# Altium schematic symbol library resistor.SchLib: 32 symbols
Pins are listed as number, name and electrical type; pins without a type are passive.

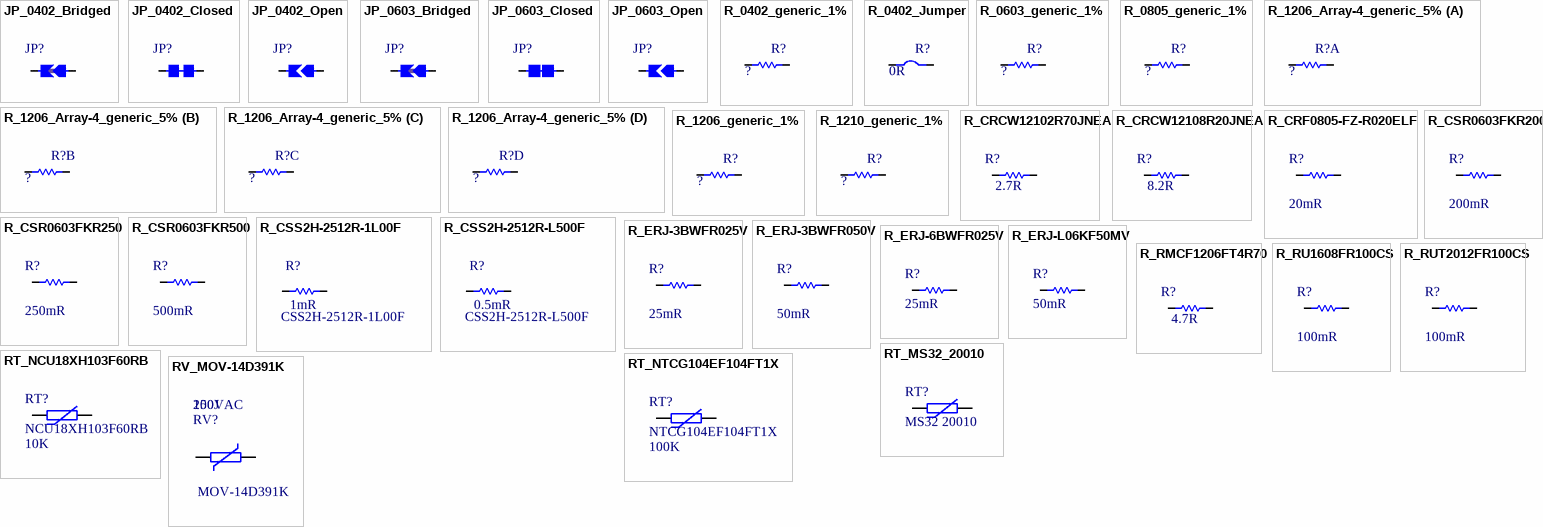
[diagram p0: symbols JP_0402_Bridged to RV_MOV-14D391K]

## JP_0402_Bridged
designator JP?, comment 0402 Solder Bridge, Bridged with Solder  (value not drawn)  (no BOM)
footprint 0402_Jumper_BRIDGED (0402 Resistor footprint, Bridged with solder blob)
pins: 1, 2

## JP_0402_Closed
designator JP?, comment 0402 resistor with shorted pads  (value not drawn)  (net tie, no BOM)
footprint 0402_Jumper_Closed (0402 Resistor, shorted through with wire)
pins: 1, 2

## JP_0402_Open
designator JP?, comment 0402 resistor with open pads  (value not drawn)  (no BOM)
footprint 0402_Jumper_Open (0402 Resistor footprint, open)
pins: 1, 2

## JP_0603_Bridged
designator JP?, comment Solder Bridge, Bridged with Solder  (value not drawn)
footprint 0603_Jumper_BRIDGED (Footprint not found)
pins: 1, 2

## JP_0603_Closed
designator JP?, comment 0603 resistor with shorted pads  (value not drawn)  (net tie, no BOM)
footprint 0603_Jumper_CLOSED (0603 Resistor, shorted through with wire)
pins: 1, 2

## JP_0603_Open
designator JP?, comment Solder Bridge, Open  (value not drawn)
footprint 0603_Jumper_OPEN (0603 Resistor, Easy to bridge with solder)
pins: 1, 2

## R_0402_generic_1%
designator R?, comment R_0402_?_1%  (value not drawn)
Generic 0402 Resistor (10.2R to 10M); Manufacturer: Yageo; Power Rating: 0.0625W; Temperature Coefficient: ±100ppm/°C; Tolerance: ±1%; Voltage Rating: 50V; Operating Temperature: -55°C ~ 155°C; Manufacturer Part Number: ='RC0402FR-07'+ValueFormatted+'L'; HelpURL: https://www.digikey.com/products/en/resistors/chip-resistor-surface-mount/52?pv17=103&FV=fffc000d%2Cc0001%2C1c0002%2C1f140000%2Cffe00034&k=RC0402; ValueFormatted: =Copy(Copy(Value, 0, Pos('.', Value)-1)+Copy(Value, Length(Value), 1)+Copy(Value, Pos('.', Value)+1, Length(Value)-Pos('.', Value)-1),1,Pos('.',Value)*Length(Value))+Copy(Value,1,Length(Value)*(1-Pos('.',Value))); Value: ?
simulation model Resistor (Resistor Model)
footprint 0402_Resistor (0402 RESISTOR)
pins: 1, 2

## R_0402_Jumper
designator R?, comment value 0R  (hidden comment: 0402 Jumper)
0402 Jumper (0 ohms); Manufacturer: Yageo; Manufacturer Part Number: RC0402JR-070RL; Power Rating: 0.0625W; Operating Temperature: -55°C ~ 155°C; Supplier 1: Digi-Key; Supplier 2: Mouser; Supplier Part Number 1: 311-0.0JRCT-ND; Supplier Part Number 2: 603-RC0402JR-070RL
simulation model Resistor (Resistor Model)
footprint 0402_Resistor (0402 RESISTOR)
pins: 1, 2

## R_0603_generic_1%
designator R?, comment R_0603_?_1%  (value not drawn)
Generic 0603 Resistor (10.2R to 10M); Manufacturer: Yageo; Power Rating: 0.1W; Temperature Coefficient: ±100ppm/°C; Tolerance: ±1%; Voltage Rating: 75V; Operating Temperature: -55°C ~ 155°C; Manufacturer Part Number: ='RC0603FR-07'+ValueFormatted+'L'; HelpURL: https://www.digikey.com/products/en/resistors/chip-resistor-surface-mount/52?pv17=103&FV=fffc000d%2Cc0001%2C1c0002%2C1f140000%2Cffe00034&k=RC0603; ValueFormatted: =Copy(Copy(Value, 0, Pos('.', Value)-1)+Copy(Value, Length(Value), 1)+Copy(Value, Pos('.', Value)+1, Length(Value)-Pos('.', Value)-1),1,Pos('.',Value)*Length(Value))+Copy(Value,1,Length(Value)*(1-Pos('.',Value))); Value: ?
simulation model Resistor (Resistor Model)
footprint 0603_Resistor (0603 RESISTOR)
pins: 1, 2

## R_0805_generic_1%
designator R?, comment R_0805_?_1%  (value not drawn)
Generic 0805 resistor (10.2R to 10M); Manufacturer: Yageo; Power Rating: 0.125W; Temperature Coefficient: ±100ppm/°C; Tolerance: ±1%; Voltage Rating: 150V; Operating Temperature: -55°C ~ 155°C; Manufacturer Part Number: ='RC0805FR-07'+ValueFormatted+'L'; HelpURL: https://www.digikey.com/products/en/resistors/chip-resistor-surface-mount/52?pv17=103&FV=fffc000d%2Cc0001%2C1c0002%2C1f140000%2Cffe00034&k=RC0805; ValueFormatted: =Copy(Copy(Value, 0, Pos('.', Value)-1)+Copy(Value, Length(Value), 1)+Copy(Value, Pos('.', Value)+1, Length(Value)-Pos('.', Value)-1),1,Pos('.',Value)*Length(Value))+Copy(Value,1,Length(Value)*(1-Pos('.',Value))); Value: ?
simulation model Resistor (Resistor Model)
footprint 0805_Resistor (0805 Resistor)
pins: 1, 2

## R_1206_Array-4_generic_5%
designator R?, comment R_1206_Array-4?_5%  (value not drawn)
Generic Isolated Array of 4 resistors, 1206 package (0R to 1M); Manufacturer: Yageo; Power Rating: 0.0625W; Temperature Coefficient: ±250ppm/°C; Tolerance: ±5%; Voltage Rating: 50V; Operating Temperature: -55°C ~ 155°C; Manufacturer Part Number: ='YC164-JR-07'+ValueFormatted+'L'; HelpURL: https://www.digikey.com/products/en/resistors/resistor-networks-arrays/50?FV=ffe00032%2C1c0002&quantity=0&ColumnSort=1&page=1&k=YC164-JR-07&pageSize=100&pkeyword=YC164-JR-07; ValueFormatted: =Copy(Copy(Value, 0, Pos('.', Value)-1)+Copy(Value, Length(Value), 1)+Copy(Value, Pos('.', Value)+1, Length(Value)-Pos('.', Value)-1),1,Pos('.',Value)*Length(Value))+Copy(Value,1,Length(Value)*(1-Pos('.',Value))); Value: ?
footprint 1206_Resistor_Array-4 (1206 Resistor Array (4 resistors))
part A pins: 1, 5
part B pins: 2, 6
part C pins: 3, 7
part D pins: 4, 8

## R_1206_generic_1%
designator R?, comment R_1206_?_1%  (value not drawn)
Generic 1206 resistor (10.2R to 10M); Manufacturer: Yageo; Power Rating: 0.25W; Temperature Coefficient: ±100ppm/°C; Tolerance: ±1%; Voltage Rating: 200V; Operating Temperature: -55°C ~ 155°C; Manufacturer Part Number: ='RC1206FR-07'+ValueFormatted+'L'; HelpURL: https://www.digikey.com/products/en/resistors/chip-resistor-surface-mount/52?pv17=103&FV=fffc000d%2Cc0001%2C1c0002%2C1f140000%2Cffe00034&k=RC1206; ValueFormatted: =Copy(Copy(Value, 0, Pos('.', Value)-1)+Copy(Value, Length(Value), 1)+Copy(Value, Pos('.', Value)+1, Length(Value)-Pos('.', Value)-1),1,Pos('.',Value)*Length(Value))+Copy(Value,1,Length(Value)*(1-Pos('.',Value))); Value: ?
simulation model Resistor (Resistor Model)
footprint 1206_Resistor (1206 Resistor)
pins: 1, 2

## R_1210_generic_1%
designator R?, comment R_1210_?_1%  (value not drawn)
Generic 1210 resistor (10.2R to 1M); Manufacturer: Yageo; Power Rating: 0.5W; Temperature Coefficient: ±100ppm/°C; Tolerance: ±1%; Voltage Rating: 200V; Operating Temperature: -55°C ~ 155°C; Manufacturer Part Number: ='AC1210FR-07'+ValueFormatted+'L'; HelpURL: https://www.digikey.com/products/en/resistors/chip-resistor-surface-mount/52?k=AC1210FR&k=&pkeyword=AC1210FR&pv17=103&FV=ffe00034; ValueFormatted: =Copy(Copy(Value, 0, Pos('.', Value)-1)+Copy(Value, Length(Value), 1)+Copy(Value, Pos('.', Value)+1, Length(Value)-Pos('.', Value)-1),1,Pos('.',Value)*Length(Value))+Copy(Value,1,Length(Value)*(1-Pos('.',Value))); Value: ?
simulation model Resistor (Resistor Model)
footprint 1210_Resistor (1210 Resistor)
pins: 1, 2

## R_CRCW12102R70JNEA
designator R?, comment value 2.7R  (hidden comment: CRCW12102R70JNEA)
2.7 Ohms ±5% 0.5W, 1/2W Chip Resistor 1210 (3225 Metric) Automotive AEC-Q200 Thick Film; Manufacturer: Vishay Dale; Voltage Rating: 200V; Temperature Coefficient: 200ppm/°C; Tolerance: 5%; Composition: Thick Film; Manufacturer Part Number: CRCW12102R70JNEA; Power Rating: 0.5W; Contact Plating: Tin; Features: Automotive AEC-Q200; Height: 0.024inch; Max Operating Temperature: 155°C; Min Operating Temperature: -55°C; Case/Package: 1210; Supplier 1: Digi-Key; Supplier Part Number 1: 541-2.7VDKR-ND
footprint 1210_Resistor (1210 Resistor)
pins: 1, 2

## R_CRCW12108R20JNEA
designator R?, comment value 8.2R  (hidden comment: CRCW12108R20JNEA)
8.2 Ohms ±5% 0.5W, 1/2W Chip Resistor 1210 (3225 Metric) Automotive AEC-Q200 Thick Film; Manufacturer: Vishay Dale; Voltage Rating: 200V; Temperature Coefficient: 200ppm/°C; Supplier 1: Digi-Key; Supplier Part Number 1: 541-8.2VDKR-ND; Tolerance: 5%; Composition: Thick Film; Manufacturer Part Number: CRCW12108R20JNEA; Power Rating: 0.5W; Contact Plating: Tin; Features: Automotive AEC-Q200; Height: 0.024inch; Max Operating Temperature: 155°C; Min Operating Temperature: -55°C; Case/Package: 1210
footprint 1210_Resistor (1210 Resistor)
pins: 1, 2

## R_CRF0805-FZ-R020ELF
designator R?, comment value 20mR  (hidden comment: CRF0805-FZ-R020ELF)
20 mOhms ±1% 0.5W, 1/2W Chip Resistor 0805 (2012 Metric) Automotive AEC-Q200, Current Sense, Moisture Resistant Metal Element; Manufacturer: Bourns; Temperature Coefficient: 50ppm/°C; Min Operating Temperature: -55°C; Max Power Dissipation: 0.5W; Manufacturer Part Number: CRF0805-FZ-R020ELF; Max Operating Temperature: 170°C; Composition: Metal Element; Tolerance: 1%; Supplier 1: Digi-Key; Supplier Part Number 1: CRF0805-FZ-R020ELFDKR-ND
footprint 0805_Resistor (0805 Resistor)
pins: 1, 2

## R_CSR0603FKR200
designator R?, comment value 200mR  (hidden comment: CSR0603FKR200)
200 mOhms ±1% 0.125W, 1/8W Chip Resistor 0603 (1608 Metric) Current Sense Thick Film; Manufacturer: Stackpole Electronics; Temperature Coefficient: 300ppm/°C; Min Operating Temperature: -55°C; Max Power Dissipation: 0.125W; Manufacturer Part Number: CSR0603FKR200; Max Operating Temperature: 155°C; Composition: Thick Film; Tolerance: 1%; Supplier 1: Digi-Key; Supplier Part Number 1: CSR0603FKR200CT-ND
footprint 0603_Resistor (0603 RESISTOR)
pins: 1, 2

## R_CSR0603FKR250
designator R?, comment value 250mR  (hidden comment: CSR0603FKR250)
250 mOhms ±1% 0.125W, 1/8W Chip Resistor 0603 (1608 Metric) Current Sense Thick Film; Manufacturer: Stackpole Electronics; Temperature Coefficient: 300ppm/°C; Min Operating Temperature: -55°C; Max Power Dissipation: 0.125W; Manufacturer Part Number: CSR0603FKR250; Max Operating Temperature: 155°C; Composition: Thick Film; Tolerance: 1%; Supplier 1: Digi-Key; Supplier Part Number 1: CSR0603FKR250CT-ND
footprint 0603_Resistor (0603 RESISTOR)
pins: 1, 2

## R_CSR0603FKR500
designator R?, comment value 500mR  (hidden comment: CSR0603FKR500)
500 mOhms ±1% 0.125W, 1/8W Chip Resistor 0603 (1608 Metric) Current Sense Thick Film; Manufacturer: Stackpole Electronics; Temperature Coefficient: 300ppm/°C; Min Operating Temperature: -55°C; Max Power Dissipation: 0.125W; Manufacturer Part Number: CSR0603FKR500; Max Operating Temperature: 155°C; Composition: Thick Film; Tolerance: 1%; Supplier 1: Digi-Key; Supplier Part Number 1: CSR0603FKR500CT-ND
footprint 0603_Resistor (0603 RESISTOR)
pins: 1, 2

## R_CSS2H-2512R-1L00F
designator R?, comment CSS2H-2512R-1L00F  value 1mR
1 mOhms ±1% 5W Chip Resistor 2512 (6432 Metric) Current Sense, Moisture Resistant Metal Element; Manufacturer: Bourns; Temperature Coefficient: 50ppm/°C; Min Operating Temperature: -55°C; Max Power Dissipation: 5W; Case/Package: 2512; Tolerance: 1%; Power Rating: 5W; Length: 0.25inch; Max Operating Temperature: 170°C; Manufacturer Part Number: CSS2H-2512R-1L00F; Height: 0.037inch; Resistance: 1mR; Supplier 1: Digi-Key; Supplier Part Number 1: CSS2H-2512R-1L00FCT-ND
footprint 2512_Resistor (2512 Resistor)
pins: 1, 2

## R_CSS2H-2512R-L500F
designator R?, comment CSS2H-2512R-L500F  value 0.5mR
500 µOhms ±1% 6W Chip Resistor 2512 (6432 Metric) Current Sense, Moisture Resistant Metal Element; Manufacturer: Bourns; Temperature Coefficient: 50ppm/°C; Supplier 1: Digi-Key; Supplier Part Number 1: CSS2H-2512R-L500FCT-ND; Min Operating Temperature: -55°C; Max Power Dissipation: 6W; Case/Package: 2512; Tolerance: 1%; Power Rating: 6W; Length: 0.25inch; Max Operating Temperature: 170°C; Manufacturer Part Number: CSS2H-2512R-L500F; Height: 0.037inch; Resistance: 0.5mR
footprint 2512_Resistor (2512 Resistor)
pins: 1, 2

## R_ERJ-3BWFR025V
designator R?, comment value 25mR  (hidden comment: ERJ-3BWFR025V)
25 mOhms ±1% 0.333W, 1/3W Chip Resistor 0603 (1608 Metric) Current Sense Thick Film; Manufacturer: Panasonic; Manufacturer Part Number: ERJ-3BWFR050V; Temperature Coefficient: 250ppm/°C; Min Operating Temperature: -55°C; Max Power Dissipation: 0.333W; Max Operating Temperature: 155°C; Composition: Thick Film; Tolerance: 1%; Supplier 1: Digi-Key; Supplier Part Number 1: P17464CT-ND
footprint 0603_Resistor (0603 RESISTOR)
pins: 1, 2

## R_ERJ-3BWFR050V
designator R?, comment value 50mR  (hidden comment: ERJ-3BWFR050V)
50 mOhms ±1% 0.333W, 1/3W Chip Resistor 0603 (1608 Metric) Current Sense Thick Film; Manufacturer: Panasonic; Temperature Coefficient: 150ppm/°C; Min Operating Temperature: -55°C; Max Power Dissipation: 0.333W; Manufacturer Part Number: ERJ-3BWFR050V; Max Operating Temperature: 155°C; Composition: Thick Film; Tolerance: 1%; Supplier 1: Digi-Key; Supplier Part Number 1: P17472CT-ND
footprint 0603_Resistor (0603 RESISTOR)
pins: 1, 2

## R_ERJ-6BWFR025V
designator R?, comment value 25mR  (hidden comment: ERJ-6BWFR025V)
25 mOhms ±1% 0.5W, 1/2W Chip Resistor 0805 (2012 Metric) Automotive AEC-Q200, Current Sense Thick Film; Manufacturer: Panasonic; Temperature Coefficient: 200ppm/°C; Min Operating Temperature: -55°C; Max Power Dissipation: 0.5W; Manufacturer Part Number: ERJ-6BWFR025V; Max Operating Temperature: 155°C; Composition: Thick Film; Tolerance: 1%; Supplier 1: Digi-Key; Supplier Part Number 1: P17580CT-ND
footprint 0805_Resistor (0805 Resistor)
pins: 1, 2

## R_ERJ-L06KF50MV
designator R?, comment value 50mR  (hidden comment: ERJ-L06KF50MV)
50 mOhms ±1% 0.25W, 1/4W Chip Resistor 0805 (2012 Metric) Automotive AEC-Q200, Current Sense Thick Film; Manufacturer: Panasonic; Temperature Coefficient: 100ppm/°C; Min Operating Temperature: -55°C; Max Power Dissipation: 0.25W; Manufacturer Part Number: ERJ-L06KF50MV; Max Operating Temperature: 125°C; Composition: Thick Film; Tolerance: 1%; Supplier 1: Digi-Key; Supplier Part Number 1: P50LLCT-ND
footprint 0805_Resistor (0805 Resistor)
pins: 1, 2

## R_RMCF1206FT4R70
designator R?, comment value 4.7R  (hidden comment: RMCF1206FT4R70)
4.7 Ohms ±1% 0.25W, 1/4W Chip Resistor 1206 (3216 Metric) Automotive AEC-Q200 Thick Film; Manufacturer: Stackpole Electronics; Temperature Coefficient: 200ppm/°C; Tolerance: 1%; Min Operating Temperature: -55°C; Composition: Thick Film; Manufacturer Part Number: RMCF1206FT4R70; Max Operating Temperature: 155°C; Power Rating: 0.25W; Supplier 1: Digi-Key; Supplier Part Number 1: RMCF1206FT4R70DKR-ND
footprint 1206_Resistor (1206 Resistor)
pins: 1, 2

## R_RU1608FR100CS
designator R?, comment value 100mR  (hidden comment: RU1608FR100CS)
100 mOhms ±1% 0.25W, 1/4W Chip Resistor 0603 (1608 Metric) Current Sense, Moisture Resistant Thick Film; Manufacturer: Samsung; Temperature Coefficient: 150ppm/°C; Min Operating Temperature: -55°C; Max Power Dissipation: 0.25W; Manufacturer Part Number: RU1608FR100CS; Max Operating Temperature: 155°C; Composition: Thick Film; Tolerance: 1%; Supplier 1: Digi-Key; Supplier Part Number 1: 1276-6155-1-ND
footprint 0603_Resistor (0603 RESISTOR)
pins: 1, 2

## R_RUT2012FR100CS
designator R?, comment value 100mR  (hidden comment: RUT2012FR100CS)
100 mOhms ±1% 0.25W, 1/4W Chip Resistor 0805 (2012 Metric) Current Sense, Moisture Resistant Thick Film; Manufacturer: Samsung; Temperature Coefficient: 150ppm/°C; Min Operating Temperature: -55°C; Max Power Dissipation: 0.25W; Manufacturer Part Number: RUT2012FR100CS; Max Operating Temperature: 155°C; Composition: Thick Film; Tolerance: 1%; Supplier 1: Digi-Key; Supplier Part Number 1: 1276-6170-1-ND
footprint 0805_Resistor (0805 Resistor)
pins: 1, 2

## RT_MS32_20010
designator RT?, comment MS32 20010
Inrush Current Limiter 20 Ohms ±25% 10A 1.18" (30mm); Manufacturer: Ametherm; Value: 20R; Dissipation Factor: 45.4%; Operating Supply Voltage: 440V; R @ Current: 180mR; Manufacturer Part Number: MS32 20010; Supplier 1: Digi-Key; Supplier Part Number 1: 570-1018-ND; Resistance: 20R; Tolerance: 25%; Current - Steady State Max: 10A
footprint RT_MS32 (Ametherm MS32 Series Inrush Current Limiter)
pins: 1, 2

## RT_NCU18XH103F60RB
designator RT?, comment NCU18XH103F60RB  value 10K
NTC Thermistor 10k 0603 (1608 Metric); Manufacturer: Murata; Supplier 1: Digi-Key; Max Operating Temperature: 125°C; Min Operating Temperature: -40°C; Manufacturer Part Number: NCU18XH103F60RB; Supplier Part Number 1: 490-16279-6-ND
footprint 0603_Resistor (0603 RESISTOR)
pins: 1, 2

## RT_NTCG104EF104FT1X
designator RT?, comment NTCG104EF104FT1X  value 100K
NTC Thermistor 100k 0402 (1005 Metric); Manufacturer: TDK Corporation; Max Operating Temperature: 125°C; Min Operating Temperature: -40°C; Manufacturer Part Number: NTCG104EF104FT1X; Supplier 1: Digi-Key; Supplier 2: Mouser; Supplier Part Number 1: 445-174903-1-ND; Supplier Part Number 2: 810-NTCG104EF104FT1
footprint 0402_Resistor (0402 RESISTOR)
pins: 1, 2

## RV_MOV-14D391K
designator RV?, comment MOV-14D391K  Energy: 100J  Voltage Rating (AC): 250VAC
390V 4.5kA Varistor 1 Circuit Through Hole Disc 14mm; Manufacturer: Bourns; Tolerance: 10%; Clamping Current: 50A; Clamping Voltage: 650V; Min Varistor Voltage: 351V; Power Rating: 600mW; Capacitance: 510pF; Voltage Rating (DC): 320VDC; Supplier 1: Digi-Key; Supplier Part Number 1: MOV-14D391K-ND; Varistor Voltage: 390V; Max Surge Current: 4.5kA; Manufacturer Part Number: MOV-14D391K; Min Operating Temperature: -40°C; Max Operating Temperature: 85°C
footprint MOV_14mm_Disk_7.5mm_Thru
pins: 1, 2